# Altium footprint library TH resistors.PcbLib: 92 footprints (part 5 of 6)
Each footprint in its own frame and in the unit in brackets; x right, y up, seen from the top. Pads: shape width x height; smd on the part's side, far side on the other; paste and mask are expansions set on the pad; w line width, h text height; cw(c..) or ccw(c..) is an arc to the next point about the centre after c.
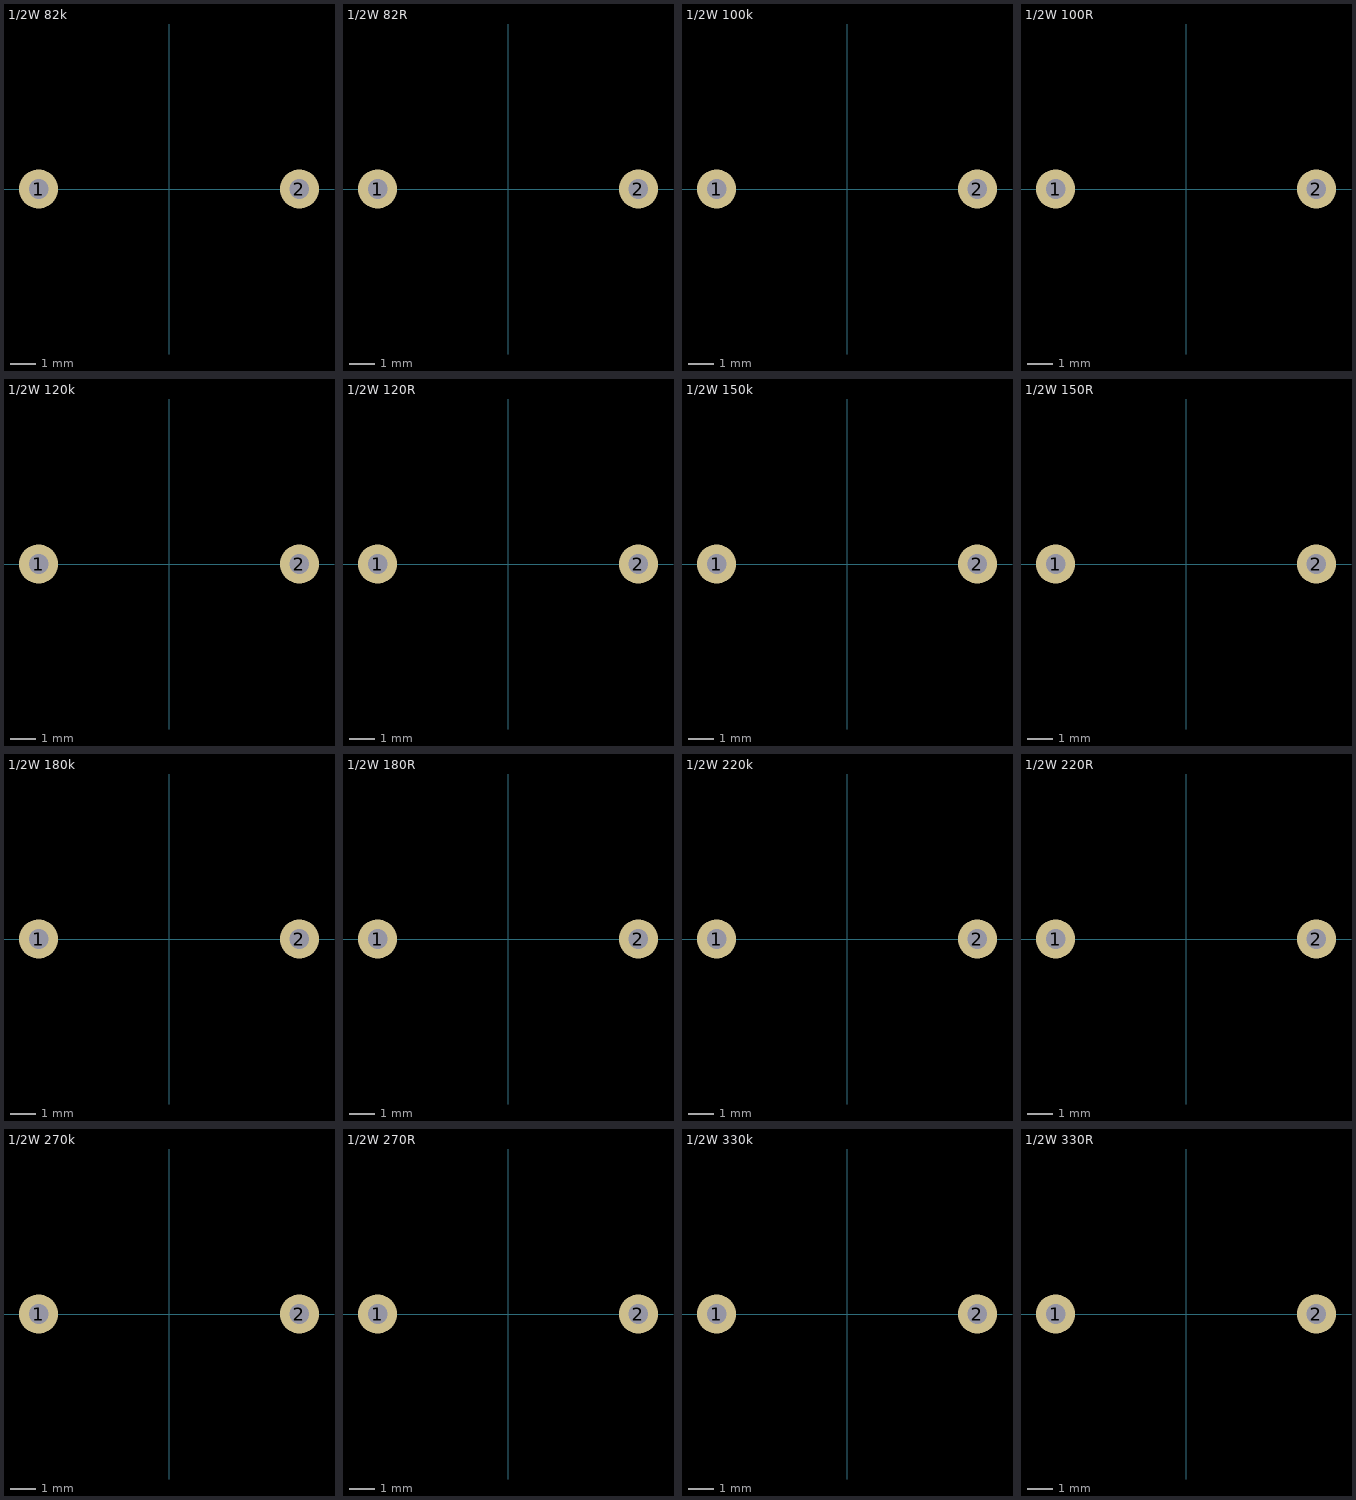
[diagram p4: the footprints below, top view; thin cyan lines are the x and y axes]

## 1/2W 82k [mil]
pads (2):
  round 60 hole 30: 1(-200,0) 2(200,0)
3D body "Resistor Axial 0.5W - Pitch 10.2mm (401.57mil) - 82K.STEP": height 59.06, standoff -206.69, extent -210.63,-59.06 210.63,59.06

## 1/2W 82R [mil]
pads (2):
  round 60 hole 30: 1(-200,0) 2(200,0)
3D body "Resistor Axial 0.5W - Pitch 10.2mm (401.57mil) - 82R.STEP": height 59.06, standoff -206.69, extent -210.63,-59.06 210.63,59.06

## 1/2W 100k [mil]
pads (2):
  round 60 hole 30: 1(-200,0) 2(200,0)
3D body "Resistor Axial 0.5W - Pitch 10.2mm (401.57mil) - 100K.STEP": height 59.06, standoff -206.69, extent -210.63,-59.06 210.63,59.06

## 1/2W 100R [mil]
pads (2):
  round 60 hole 30: 1(-200,0) 2(200,0)
3D body "Resistor Axial 0.5W - Pitch 10.2mm (401.57mil) - 100R.STEP": height 59.06, standoff -206.69, extent -210.63,-59.06 210.63,59.06

## 1/2W 120k [mil]
pads (2):
  round 60 hole 30: 1(-200,0) 2(200,0)
3D body "Resistor Axial 0.5W - Pitch 10.2mm (401.57mil) - 120K.STEP": height 59.06, standoff -206.69, extent -210.63,-59.06 210.63,59.06

## 1/2W 120R [mil]
pads (2):
  round 60 hole 30: 1(-200,0) 2(200,0)
3D body "Resistor Axial 0.5W - Pitch 10.2mm (401.57mil) - 120R.STEP": height 59.06, standoff -206.69, extent -210.63,-59.06 210.63,59.06

## 1/2W 150k [mil]
pads (2):
  round 60 hole 30: 1(-200,0) 2(200,0)
3D body "Resistor Axial 0.5W - Pitch 10.2mm (401.57mil) - 150K.STEP": height 59.06, standoff -206.69, extent -210.63,-59.06 210.63,59.06

## 1/2W 150R [mil]
pads (2):
  round 60 hole 30: 1(-200,0) 2(200,0)
3D body "Resistor Axial 0.5W - Pitch 10.2mm (401.57mil) - 150R.STEP": height 59.06, standoff -206.69, extent -210.63,-59.06 210.63,59.06

## 1/2W 180k [mil]
pads (2):
  round 60 hole 30: 1(-200,0) 2(200,0)
3D body "Resistor Axial 0.5W - Pitch 10.2mm (401.57mil) - 180K.STEP": height 59.06, standoff -206.69, extent -210.63,-59.06 210.63,59.06

## 1/2W 180R [mil]
pads (2):
  round 60 hole 30: 1(-200,0) 2(200,0)
3D body "Resistor Axial 0.5W - Pitch 10.2mm (401.57mil) - 180R.STEP": height 59.06, standoff -206.69, extent -210.63,-59.06 210.63,59.06

## 1/2W 220k [mil]
pads (2):
  round 60 hole 30: 1(-200,0) 2(200,0)
3D body "Resistor Axial 0.5W - Pitch 10.2mm (401.57mil) - 220K.STEP": height 59.06, standoff -206.69, extent -210.63,-59.06 210.63,59.06

## 1/2W 220R [mil]
pads (2):
  round 60 hole 30: 1(-200,0) 2(200,0)
3D body "Resistor Axial 0.5W - Pitch 10.2mm (401.57mil) - 220R.STEP": height 59.06, standoff -206.69, extent -210.63,-59.06 210.63,59.06

## 1/2W 270k [mil]
pads (2):
  round 60 hole 30: 1(-200,0) 2(200,0)
3D body "Resistor Axial 0.5W - Pitch 10.2mm (401.57mil) - 270K.STEP": height 59.06, standoff -206.69, extent -210.63,-59.06 210.63,59.06

## 1/2W 270R [mil]
pads (2):
  round 60 hole 30: 1(-200,0) 2(200,0)
3D body "Resistor Axial 0.5W - Pitch 10.2mm (401.57mil) - 270R.STEP": height 59.06, standoff -206.69, extent -210.63,-59.06 210.63,59.06

## 1/2W 330k [mil]
pads (2):
  round 60 hole 30: 1(-200,0) 2(200,0)
3D body "Resistor Axial 0.5W - Pitch 10.2mm (401.57mil) - 330K.STEP": height 59.06, standoff -206.69, extent -210.63,-59.06 210.63,59.06

## 1/2W 330R [mil]
pads (2):
  round 60 hole 30: 1(-200,0) 2(200,0)
3D body "Resistor Axial 0.5W - Pitch 10.2mm (401.57mil) - 330R.STEP": height 59.06, standoff -206.69, extent -210.63,-59.06 210.63,59.06